# Altium footprint library Components.PcbLib: 5 footprints
Each footprint in its own frame and in the unit in brackets; x right, y up, seen from the top. Pads: shape width x height; smd on the part's side, far side on the other; paste and mask are expansions set on the pad; w line width, h text height; cw(c..) or ccw(c..) is an arc to the next point about the centre after c.
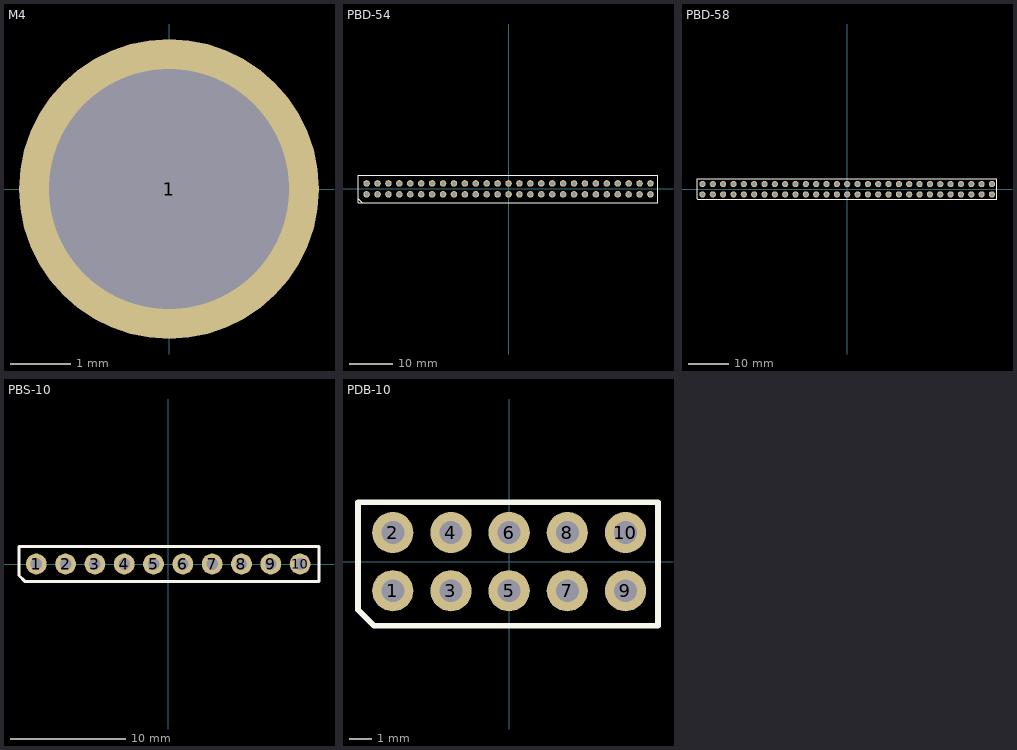
[diagram p0: the footprints below, top view; thin cyan lines are the x and y axes]

## M4 [mm]
pads (1):
  round 5 hole 4: 1(0,0)

## PBD-54 [mil]
pads (56):
  round 60 hole 40.16: 1(-1300,-50) 1(-1300,-50) 2(-1300,50) 2(-1300,50) 3(-1200,-50) 4(-1200,50) 5(-1100,-50) 6(-1100,50) 7(-1000,-50) 8(-1000,50) 9(-900,-50) 10(-900,50) 11(-800,-50) 12(-800,50) 13(-700,-50) 14(-700,50) 15(-600,-50) 16(-600,50) 17(-500,-50) 18(-500,50) 19(-400,-50) 20(-400,50) 21(-300,-50) 22(-300,50) 23(-200,-50) 24(-200,50) 25(-100,-50) 26(-100,50) 27(0,-50) 28(0,50) 29(100,-50) 30(100,50) 31(200,-50) 32(200,50) 33(300,-50) 34(300,50) 35(400,-50) 36(400,50) 37(500,-50) 38(500,50) 39(600,-50) 40(600,50) 41(700,-50) 42(700,50) 43(800,-50) 44(800,50) 45(900,-50) 46(900,50) 47(1000,-50) 48(1000,50) 49(1100,-50) 50(1100,50) 51(1200,-50) 52(1200,50) 53(1300,-50) 54(1300,50)
Top Overlay:
  lines w10: -1378.74,-89.37 -1339.37,-128.74 ; -1378.74,-128.74 1368.9,-128.74 1368.9,127.17 -1378.74,127.17 -1378.74,-128.74

## PBD-58 [mil]
pads (58):
  round 60 hole 40.16: 1(-1400,-50) 2(-1400,50) 3(-1300,-50) 4(-1300,50) 5(-1200,-50) 6(-1200,50) 7(-1100,-50) 8(-1100,50) 9(-1000,-50) 10(-1000,50) 11(-900,-50) 12(-900,50) 13(-800,-50) 14(-800,50) 15(-700,-50) 16(-700,50) 17(-600,-50) 18(-600,50) 19(-500,-50) 20(-500,50) 21(-400,-50) 22(-400,50) 23(-300,-50) 24(-300,50) 25(-200,-50) 26(-200,50) 27(-100,-50) 28(-100,50) 29(0,-50) 30(0,50) 31(100,-50) 32(100,50) 33(200,-50) 34(200,50) 35(300,-50) 36(300,50) 37(400,-50) 38(400,50) 39(500,-50) 40(500,50) 41(600,-50) 42(600,50) 43(700,-50) 44(700,50) 45(800,-50) 46(800,50) 47(900,-50) 48(900,50) 49(1000,-50) 50(1000,50) 51(1100,-50) 52(1100,50) 53(1200,-50) 54(1200,50) 55(1300,-50) 56(1300,50) 57(1400,-50) 58(1400,50)
Top Overlay:
  lines w10: -1452.76,-90.55 -1444.88,-98.42 1448.82,-98.42 1448.82,102.36 -1452.76,102.36 -1452.76,-90.55

## PBS-10 [mm]
pads (10):
  round 1.8 hole 1: 1(-11.43,0) 2(-8.89,0) 3(-6.35,0) 4(-3.81,0) 5(-1.27,0) 6(1.27,0) 7(3.81,0) 8(6.35,0) 9(8.89,0) 10(11.43,0)
Top Overlay:
  lines w0.254: -12.93,-1 -12.93,1.5 13.07,1.5 13.07,-1.5 -12.43,-1.5 -12.93,-1

## PDB-10 [mm]
pads (10):
  round 1.8 hole 1: 1(-5.08,-1.27) 2(-5.08,1.27) 3(-2.54,-1.27) 4(-2.54,1.27) 5(0,-1.27) 6(0,1.27) 7(2.54,-1.27) 8(2.54,1.27) 9(5.08,-1.27) 10(5.08,1.27)
Top Overlay:
  lines w0.254: -6.6,-2.1 -5.9,-2.8 6.5,-2.8 6.5,2.6 -6.6,2.6 -6.6,-2.1